# EAGLE library part RGB-LED (library BaseApp)
Digikey no :- 475-2900-1-ND
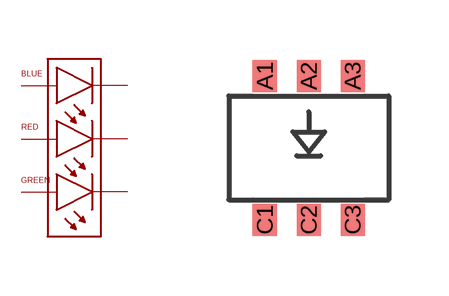
[diagram p82: symbol with the pads of LRTB-GFTM; footprint LRTB-GFTM]

Designator prefix -

## RGB-LED  [LRTB-GFTM]
A1  A1
A2  A2
A3  A3
C1  C1
C2  C2
C3  C3

## Footprint LRTB-GFTM (pad centres in mm)
smd 0.6 x 0.8: A1 -1.1,1.8; A2 0,1.8; A3 1.1,1.8; C1 -1.1,-1.8; C2 0,-1.8; C3 1.1,-1.8